# EAGLE library part OLED-RGB-96X96 (library lio)
Pinouts for OLED/LCD displays with flex ribbons
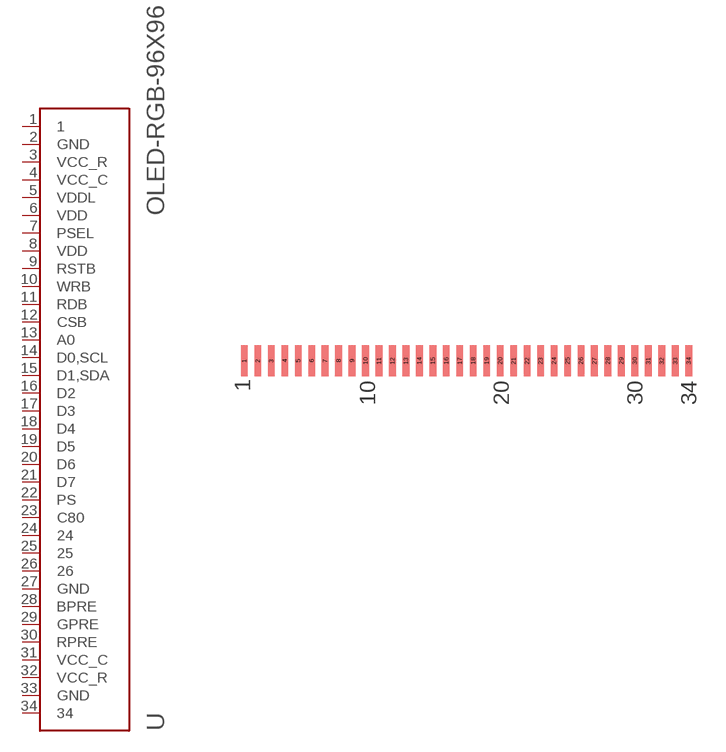
[diagram p9: symbol with the pads of 1X34-0.7MM; footprint 1X34-0.7MM]

Designator prefix -

## OLED-RGB-96X96  [1X34-0.7MM]
1  1  nc
2  GND  pwr
3  VCC_R  pwr
4  VCC_C  pwr
5  VDDL
6  VDD  pwr
7  PSEL
8  VDD
9  RSTB  in
10  WRB
11  RDB
12  CSB  in
13  A0
14  D0,SCL
15  D1,SDA
16  D2
17  D3
18  D4
19  D5
20  D6
21  D7
22  PS
23  C80
24  24  nc
25  25  nc
26  26  nc
27  GND  pwr
28  BPRE
29  GPRE
30  RPRE
31  VCC_C
32  VCC_R
33  GND  pwr
34  34  nc

## Footprint 1X34-0.7MM (pad centres in mm)
smd 0.35 x 1.6: 1 -13.65,0; 2 -12.95,0; 3 -12.25,0; 4 -11.55,0; 5 -10.85,0; 6 -10.15,0; 7 -9.45,0; 8 -8.75,0; 9 -8.05,0; 10 -7.35,0; 11 -6.65,0; 12 -5.95,0; 13 -5.25,0; 14 -4.55,0; 15 -3.85,0; 16 -3.15,0; 17 -2.45,0; 18 -1.75,0; 19 -1.05,0; 20 -0.35,0; 21 0.35,0; 22 1.05,0; 23 1.75,0; 24 2.45,0; 25 3.15,0; 26 3.85,0; 27 4.55,0; 28 5.25,0; 29 5.95,0; 30 6.65,0; 31 7.35,0; 32 8.05,0; 33 8.75,0; 34 9.45,0